# Altium footprint library IPT004N03L.PcbLib: 1 footprints
Each footprint in its own frame and in the unit in brackets; x right, y up, seen from the top. Pads: shape width x height; smd on the part's side, far side on the other; paste and mask are expansions set on the pad; w line width, h text height; cw(c..) or ccw(c..) is an arc to the next point about the centre after c.
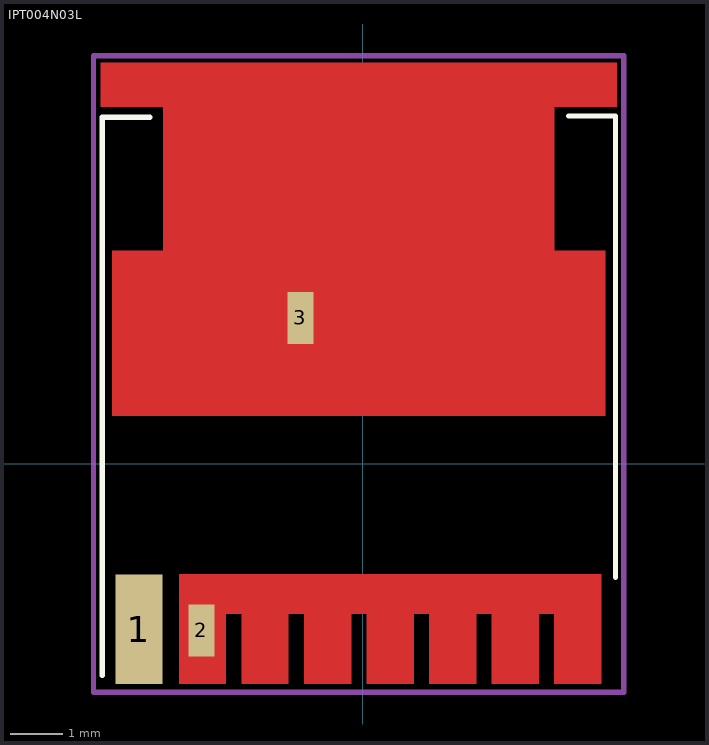
[diagram p0: the footprint, top view; thin cyan lines are the x and y axes]

## IPT004N03L [mm]
pads (3):
  rect 0.9x2.1 smd mask+0: 1(-4.3,-3.18)
  rect 0.5x1 smd mask+0: 2(-3.1,-3.2) 3(-1.2,2.8)
Top Layer:
  region: -4.81,4.085 -3.83,4.085 -3.83,6.85 -5.03,6.85 -5.03,7.7 4.87,7.7 4.87,6.85 3.67,6.85 3.67,4.085 4.65,4.085 4.65,0.925 -4.81,0.925
  region: -3.53,-4.225 -3.53,-2.125 4.57,-2.125 4.57,-4.225 3.67,-4.225 3.67,-2.875 3.37,-2.875 3.37,-4.225 2.47,-4.225 2.47,-2.875 2.17,-2.875 2.17,-4.225 1.27,-4.225 1.27,-2.875 0.97,-2.875 0.97,-4.225 0.07,-4.225 0.07,-2.875 -0.23,-2.875 -0.23,-4.225 -1.13,-4.225 -1.13,-2.875 -1.43,-2.875 -1.43,-4.225 -2.33,-4.225 -2.33,-2.875 -2.63,-2.875 -2.63,-4.225
Top Overlay:
  lines w0.1: -5.005,-4.065 -5.005,-3.505 -5.005,0.75 ; -5.005,0.715 -5.005,6.65 -4.095,6.65 ; 3.945,6.675 4.845,6.675 4.845,0.76 ; 4.845,-2.185 4.845,0.75
Top Paste:
  region: -3.53,-4.225 -3.53,-2.125 4.57,-2.125 4.57,-4.225 3.67,-4.225 3.67,-2.875 3.37,-2.875 3.37,-4.225 2.47,-4.225 2.47,-2.875 2.17,-2.875 2.17,-4.225 1.27,-4.225 1.27,-2.875 0.97,-2.875 0.97,-4.225 0.07,-4.225 0.07,-2.875 -0.23,-2.875 -0.23,-4.225 -1.13,-4.225 -1.13,-2.875 -1.43,-2.875 -1.43,-4.225 -2.33,-4.225 -2.33,-2.875 -2.63,-2.875 -2.63,-4.225
  region: -4.81,4.085 -3.83,4.085 -3.83,6.85 -5.03,6.85 -5.03,7.7 4.87,7.7 4.87,6.85 3.67,6.85 3.67,4.085 4.65,4.085 4.65,0.925 -4.81,0.925
Top Solder:
  region: -4.81,4.085 -3.83,4.085 -3.83,6.85 -5.03,6.85 -5.03,7.7 4.87,7.7 4.87,6.85 3.67,6.85 3.67,4.085 4.65,4.085 4.65,0.925 -4.81,0.925
  region: -3.53,-4.225 -3.53,-2.125 4.57,-2.125 4.57,-4.225 3.67,-4.225 3.67,-2.875 3.37,-2.875 3.37,-4.225 2.47,-4.225 2.47,-2.875 2.17,-2.875 2.17,-4.225 1.27,-4.225 1.27,-2.875 0.97,-2.875 0.97,-4.225 0.07,-4.225 0.07,-2.875 -0.23,-2.875 -0.23,-4.225 -1.13,-4.225 -1.13,-2.875 -1.43,-2.875 -1.43,-4.225 -2.33,-4.225 -2.33,-2.875 -2.63,-2.875 -2.63,-4.225
Mechanical 7:
  lines w0.1: -5.175,-4.385 5.005,-4.385 5.005,7.83 -5.175,7.83 -5.175,-4.385
Mechanical 9:
  text "'.Designator'" at -5.805,-0.579 h1
3D body "User Library-PG-HSOF-8-1.STEP": height 2.3, standoff 0, extent -5.03,-4 4.87,7.675
3D body: height 0.1, standoff 0, extent -5.2,-4.4 5,7.8
3D body: height 1.04, standoff 0, extent -5.175,-4.385 5.005,7.83